# Altium schematic symbol library test.SchLib: 1 symbol
Pins are listed as number, name and electrical type; pins without a type are passive.

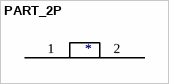
[diagram p0: symbol PART_2P]

## PART_2P
designator *
pins: 1, 2